# EAGLE library part HEF4511BT (library HEF4511BT)
BCD to 7-segment latch
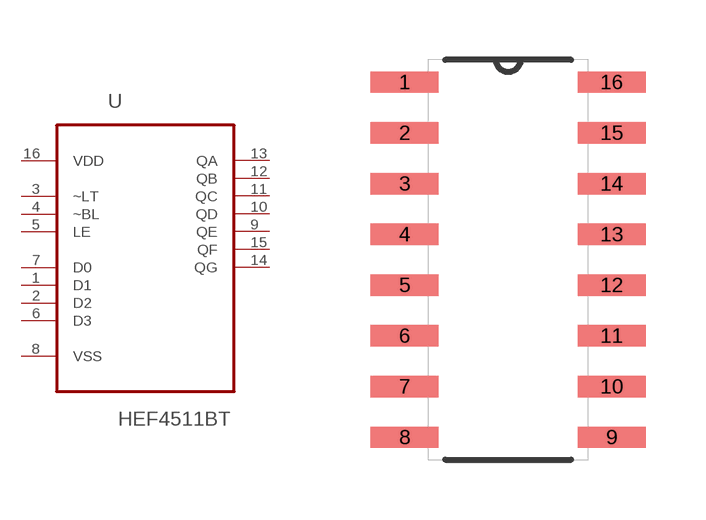
[diagram p0: symbol with the pads of SOIC127P600X175-16N; footprint SOIC127P600X175-16N]

Designator prefix U

## HEF4511BT (AVAILABILITY: Unavailable; DESCRIPTION: 4000 LOCMOS, SMD, 4511, SOIC16; Logic IC Function: BCD-to-7-Segment Latch/Decoder/Driver; Logic IC Family: 4000 CMOS;...; MF: NXP Semiconductors; MP: HEF4511BT; PACKAGE: SOIC-16 NXP Semiconductors; PRICE: None)  [SOIC127P600X175-16N]
1  D1  in
2  D2  in
3  ~LT  in
4  ~BL  in
5  LE  in
6  D3  in
7  D0  in
8  VSS  pas
9  QE  out
10  QD  out
11  QC  out
12  QB  out
13  QA  out
14  QG  out
15  QF  out
16  VDD  pwr

## Footprint SOIC127P600X175-16N (pad centres in mm)
smd 1.702 x 0.533: 1 -2.591,4.445; 2 -2.591,3.175; 3 -2.591,1.905; 4 -2.591,0.635; 5 -2.591,-0.635; 6 -2.591,-1.905; 7 -2.591,-3.175; 8 -2.591,-4.445; 9 2.591,-4.445; 10 2.591,-3.175; 11 2.591,-1.905; 12 2.591,-0.635; 13 2.591,0.635; 14 2.591,1.905; 15 2.591,3.175; 16 2.591,4.445